# Altium footprint library ES1J-600V1A35nS.PcbLib: 1 footprints
Each footprint in its own frame and in the unit in brackets; x right, y up, seen from the top. Pads: shape width x height; smd on the part's side, far side on the other; paste and mask are expansions set on the pad; w line width, h text height; cw(c..) or ccw(c..) is an arc to the next point about the centre after c.
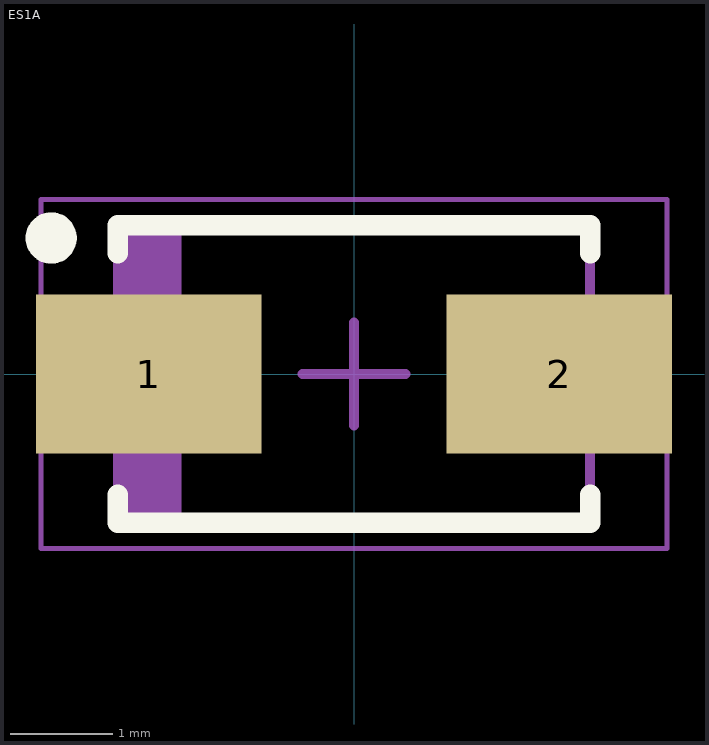
[diagram p0: the footprint, top view; thin cyan lines are the x and y axes]

## ES1A [mm] "DO-214AC"
height 2.44
pads (2):
  rect 2.2x1.55 smd: 1(-2,0) 2(2,0)
Top Overlay:
  circle w0.25: c-2.95,1.325 r0.125
  lines w0.2: -2.3,-1.175 -2.3,-1.45 2.3,-1.45 2.3,-1.175 ; -2.3,1.175 -2.3,1.45 2.3,1.45 2.3,1.175
Mechanical 13:
  rectangle: -2.3,-1.45 -1.681,1.45
  lines w0.1: -2.3,-1.45 2.3,-1.45 2.3,1.45 -2.3,1.45 -2.3,-1.45
Mechanical 15:
  lines w0.05: -3.05,-1.7 3.05,-1.7 3.05,1.7 -3.05,1.7 -3.05,-1.7
  lines w0.1: -0.5,0 0.5,0 ; 0,-0.5 0,0.5
3D body "ES1A.step": height 2.44, standoff 0, extent -2.52,-1.45 2.52,1.45